# EAGLE library part 662020230822 (library Wire-to-Board)
WR-MPC3 3.00mm Male Dual Row SMT Angled Header Through Hole Retention Clip, 20 Pins=>Code : Con_WTB_MPC3_2_PCB_SMT_662020230822 <http://katalog.we-online.de/media/thumbs2/eican/thb_Con_WTB_MPC3_2_PCB_SMT_6620xx230822_pf2.jpg> Details see: http://katalog.we-online.de/en/em/662_0xx_230_822 Created 2014-06-06, Karrer Zheng 2014 (C) Würth Elektronik
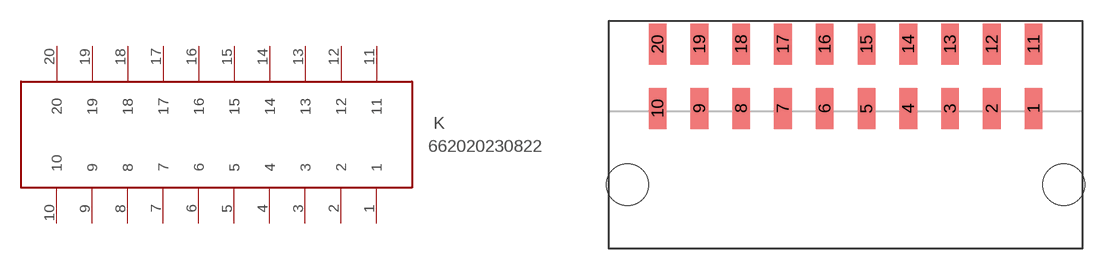
[diagram p390: symbol with the pads of 662020230822; footprint 662020230822]

Designator prefix K

## 662020230822  [662020230822]
1  1
2  2
3  3
4  4
5  5
6  6
7  7
8  8
9  9
10  10
11  11
12  12
13  13
14  14
15  15
16  16
17  17
18  18
19  19
20  20

## Footprint 662020230822 (pad centres in mm)
WR-MPC3 3.00mm Male Dual Row SMT Angled Header Through Hole Retention Clip, 20 Pins
smd 1.27 x 2.92: 1 0,-2.31; 2 -3,-2.31; 3 -6,-2.31; 4 -9,-2.31; 5 -12,-2.31; 6 -15,-2.31; 7 -18,-2.31; 8 -21,-2.31; 9 -24,-2.31; 10 -27,-2.31; 11 0,2.31; 12 -3,2.31; 13 -6,2.31; 14 -9,2.31; 15 -12,2.31; 16 -15,2.31; 17 -18,2.31; 18 -21,2.31; 19 -24,2.31; 20 -27,2.31
hole 3 at 2.16,-7.79
hole 3 at -29.16,-7.79